# EAGLE library part 74LVC1T45 (library robotter_ic)
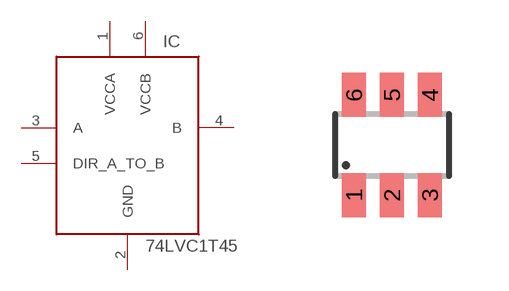
[diagram p7: symbol with the pads of SOT23-6; footprint SOT23-6]

Designator prefix IC

## 74LVC1T45DBV (MOUSER: 595-SN74LVC1T45DBVT; RS: 662-8825)  [SOT23-6]
1  VCCA  pwr
2  GND  pwr
3  A
4  B
5  DIR_A_TO_B
6  VCCB  pwr

## Footprint SOT23-6 (pad centres in mm)
Small Outline Transistor 6 lead
smd 0.6 x 1.1: 1 -0.95,-1.25; 2 0,-1.25; 3 0.95,-1.25; 4 0.95,1.25; 5 0,1.25; 6 -0.95,1.25